# Altium schematic symbol library SCH - OPAMP - MAX40056TAUA+.Schlib: 1 symbol
Pins are listed as number, name and electrical type; pins without a type are passive.

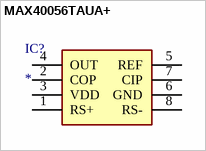
[diagram p0: symbol MAX40056TAUA+]

## MAX40056TAUA+
designator IC?
Integrated Circuit; Manufacturer_Name: Maxim Integrated; Manufacturer_Part_Number: MAX40056TAUA+; Datasheet Link: https://pdfserv.maximintegrated.com/en/ds/MAX40056F-MAX40056U.pdf; Height: 1.1mm; Mouser Part Number: 700-MAX40056TAUA+; Mouser Price/Stock: https://www.mouser.co.uk/ProductDetail/Maxim-Integrated/MAX40056TAUA%2b?qs=wnTfsH77Xs6U0RpBmDIzAw%3D%3D; Arrow Part Number: MAX40056TAUA+; Arrow Price/Stock: https://www.arrow.com/en/products/max40056taua/maxim-integrated?region=nac
pins: 1 RS+, 2 COP, 3 VDD, 4 OUT, 5 REF, 6 GND, 7 CIP, 8 RS-